# Altium footprint library robot_eseo.PcbLib: 96 footprints (part 6 of 6)
Each footprint in its own frame and in the unit in brackets; x right, y up, seen from the top. Pads: shape width x height; smd on the part's side, far side on the other; paste and mask are expansions set on the pad; w line width, h text height; cw(c..) or ccw(c..) is an arc to the next point about the centre after c.
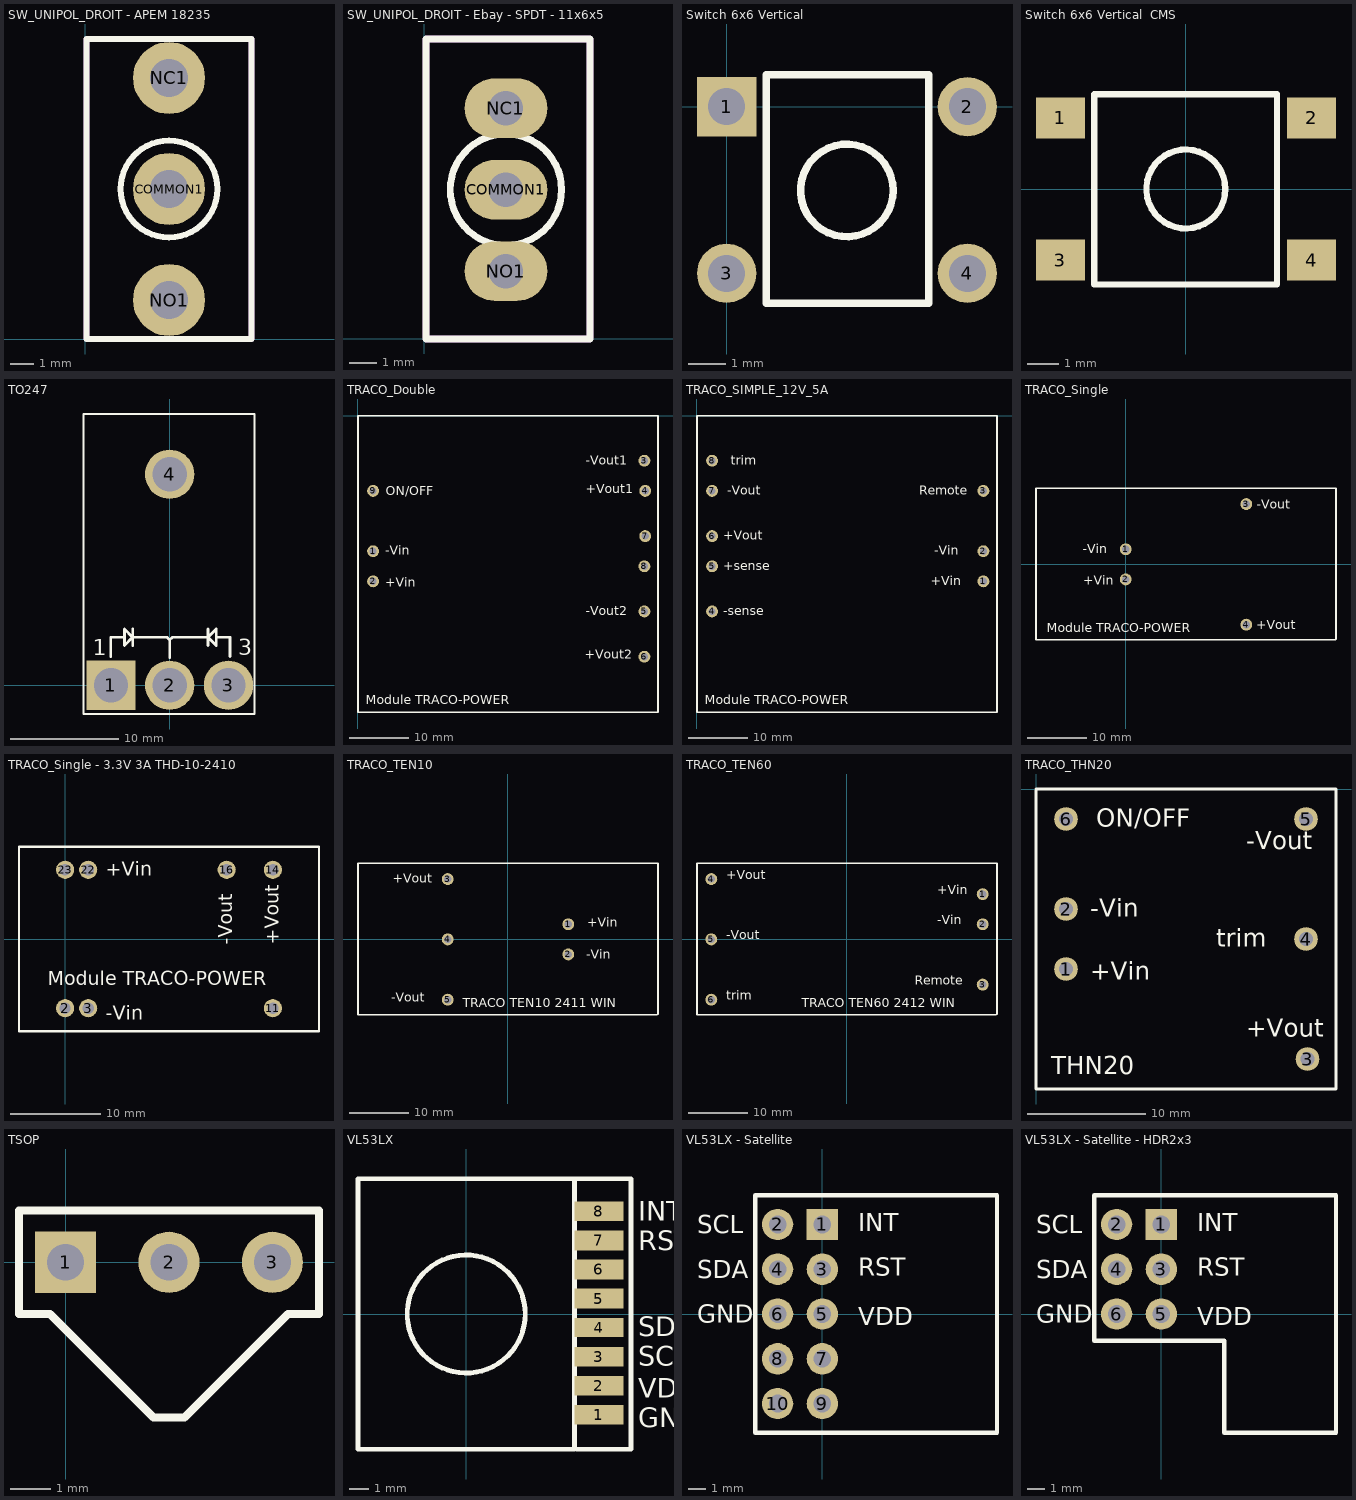
[diagram p5: the footprints below, top view; thin cyan lines are the x and y axes]

## SW_UNIPOL_DROIT - APEM 18235 [mil]
pads (3):
  round 120 hole 63: COMMON1(140,250) NC1(140,435.04) NO1(140,64.96)
Top Overlay:
  circle w10: c140,250 r80.71
  lines w10: 2.2,0 277.8,0 277.8,500 2.2,500 2.2,0
Mechanical 2:
  lines w10: 2.2,0 277.8,0 277.8,500 2.2,500 2.2,0
3D body "SW_UNIPOL_DROIT - APEM 18235.STEP": height 449.12, standoff -167.32, extent -10,3.94 285.28,496.06

## SW_UNIPOL_DROIT - Ebay - SPDT - 11x6x5 [mm] "SW_UNIPOL_DROIT - Ebay - SPDT - 11x6x5"
pads (3):
  oval 3.048x2.2 hole 1.27: COMMON1(3,5.5) NC1(3,8.5) NO1(3,2.5)
Top Overlay:
  circle w0.254: c3,5.5 r2.05
  lines w0.254: 0.056,0 0.056,11.049 6.096,11.049 6.096,0 0.056,0
Mechanical 2:
  lines w0.254: 0.056,0 0.056,11.049 6.096,11.049 6.096,0 0.056,0
3D body "switch SPDT - 11x6x5.STEP": height 8, standoff -3.6, extent 0.127,-0.039 6.127,10.961

## Switch 6x6 Vertical [mm]
height 5
pads (4):
  rect 1.6x1.6 hole 1: 1(0,0)
  round 1.6 hole 1: 2(6.5,0) 3(0,-4.5) 4(6.5,-4.5)
Top Overlay:
  circle w0.2: c3.246,-2.261 r1.25
  lines w0.2: 1.067,-5.309 5.461,-5.309 5.461,0.864 1.067,0.864 1.067,-5.309
3D body "Pushbutton-Diptronics DTS-6.step": height 7, standoff -3.5, extent -0.711,-5.335 7.189,0.865

## Switch 6x6 Vertical  CMS [mm] "Switch tactil 6x6 Vertical  CMS"
height 3.6
pads (4):
  rect 1.55x1.3 smd: 1(-3.975,2.25) 2(3.975,2.25) 3(-3.975,-2.25) 4(3.975,-2.25)
Top Overlay:
  circle w0.2: c-0.005,0 r1.25
  lines w0.2: -2.908,-3.023 -2.908,2.997 2.883,2.997 2.883,-3.023 -2.908,-3.023
3D body "Switch tactil 6mm CMS.step": height 5, standoff 0, extent -4.491,-3.011 4.509,2.989

## TO247 [mil] "TO, Thru-Hole, Vertical, Heatsink Mounted; 3 In-Line Leads"
height 901.57
pads (4):
  rect 180x180 hole 125: 1(-214.5,0)
  round 180 hole 125: 2(0,0) 3(214.5,0) 4(0,770)
Top Overlay:
  lines w7.87: -315,-105 -315,990 310,990 310,-105 -315,-105
  lines w10: -215,105 -215,175 -170,175 ; -135,145 -135,205 ; 0,100 0,165 ; 135,175 10,175 0,165 ; 140,145 140,205 ; 175,175 220,175 220,105 ; -135,175 -165,145 -165,205 -135,175 ; -135,175 -10,175 0,165 ; 140,175 170,145 170,205 140,175
  text "3" at 250,110 h59.06
  text "1" at -280,110 h59.06
3D body "TO-247H.STEP": height 196.85, standoff -311.02, extent -305.12,-15 305.12,985

## TRACO_Double [mm] "DoubleTRACO-POWER module"
height 15
pads (9):
  round 2 hole 1.219: 1(2.54,-22.86) 2(2.54,-27.94) 3(48.26,-7.62) 4(48.387,-12.7) 5(48.26,-33.02) 6(48.26,-40.64) 7(48.387,-20.32) 8(48.26,-25.4) 9(2.54,-12.7)
Top Overlay:
  lines w0.254: 0,-0.127 0,-50.038 50.546,-50.038 50.546,0 0,0
  text "+Vout1" at 38.354,-13.081 h1.52
  text "-Vout1" at 38.354,-8.255 h1.52
  text "+Vin" at 4.572,-28.829 h1.52
  text "-Vin" at 4.572,-23.495 h1.52
  text "Module TRACO-POWER" at 1.27,-48.641 h1.52
  text "ON/OFF" at 4.699,-13.462 h1.52
  text "-Vout2" at 38.354,-33.655 h1.52
  text "+Vout2" at 38.227,-41.021 h1.52
3D body: height 10, standoff 0, extent -0.127,-50.038 50.673,0.127

## TRACO_SIMPLE_12V_5A [mm] "DoubleTRACO-POWER module"
height 15
pads (8):
  round 2 hole 1.219: 1(48.26,-27.94) 2(48.26,-22.86) 3(48.26,-12.7) 4(2.54,-33.02) 5(2.54,-25.4) 6(2.54,-20.32) 7(2.54,-12.7) 8(2.54,-7.62)
Top Overlay:
  lines w0.254: 0,-0.127 0,-50.038 50.546,-50.038 50.546,0 0,0
  text "Remote" at 37.465,-13.335 h1.52
  text "+Vin" at 39.37,-28.575 h1.52
  text "-Vin" at 40.005,-23.495 h1.52
  text "Module TRACO-POWER" at 1.27,-48.641 h1.52
  text "trim" at 5.715,-8.255 h1.52
  text "-sense" at 4.445,-33.655 h1.52
  text "+Vout" at 4.445,-20.955 h1.52
  text "+sense" at 4.445,-26.035 h1.52
  text "-Vout" at 5.08,-13.335 h1.52
3D body: height 10, standoff 0, extent -0.127,-50.038 50.673,0.127

## TRACO_Single [mm] "Single TRACO-POWER module"
height 15
pads (4):
  round 2 hole 1.219: 1(0,2.54) 2(0,-2.54) 3(20.32,10.16) 4(20.32,-10.16)
Top Overlay:
  lines w0.254: -15.113,12.7 -15.113,-12.7 35.306,-12.7 35.433,-12.573 35.433,12.827 -15.113,12.827
  text "+Vout" at 21.971,-10.922 h1.52
  text "-Vout" at 22.098,9.398 h1.52
  text "+Vin" at -7.112,-3.429 h1.52
  text "-Vin" at -7.239,1.905 h1.52
  text "Module TRACO-POWER" at -13.335,-11.43 h1.52
3D body: height 10, standoff 0, extent -15.24,-12.827 35.56,12.954

## TRACO_Single - 3.3V 3A THD-10-2410 [mm] "Single TRACO-POWER module"
height 15
pads (7):
  round 2 hole 1.219: 2(0,-7.62) 3(2.54,-7.62) 11(22.86,-7.62) 14(22.86,7.62) 16(17.78,7.62) 22(2.54,7.62) 23(0,7.62)
Top Overlay:
  lines w0.254: -5.08,-10.16 27.94,-10.16 27.94,10.16 -5.08,10.16 -5.08,-10.16
  text "Module TRACO-POWER" at -1.905,-5.08 h1.52
  text "-Vin" at 4.445,-8.89 h1.52
  text "+Vin" at 4.445,6.985 h1.52
  text "-Vout" at 18.415,-0.635 h1.52
  text "+Vout" at 23.495,-0.635 h1.52
3D body: height 10, standoff 0, extent -15.24,-12.827 35.56,12.954

## TRACO_TEN10 [mm] "Single TRACO-POWER module TEN10"
height 10
pads (5):
  round 2 hole 1.219: 1(10.16,2.54) 2(10.16,-2.54) 3(-10.16,10.16) 4(-10.16,0) 5(-10.16,-10.16)
Top Overlay:
  lines w0.254: -25.273,12.7 -25.273,-12.7 25.146,-12.7 ; -25.273,12.827 25.273,12.827 25.273,-12.573
  text "+Vin" at 13.335,2.159 h1.52
  text "-Vin" at 13.208,-3.302 h1.52
  text "+Vout" at -19.431,9.525 h1.52
  text "-Vout" at -19.685,-10.541 h1.52
  text "TRACO TEN10 2411 WIN" at -7.62,-11.43 h1.52
Bottom Overlay:
  text "-Vin" at 18.669,-3.556 h1.52
  text "+Vin" at 18.288,2.413 h1.52
  text "-Vout" at -13.335,-10.668 h1.52
  text "+Vout" at -12.827,9.398 h1.52
3D body "ten10_3d_drawing.stp": height 10.16, standoff -6.04, extent -25.4,-12.7 25.4,12.7

## TRACO_TEN60 [mm] "Single TRACO-POWER module TEN60"
height 10
pads (6):
  round 2 hole 1.219: 1(22.86,7.62) 2(22.86,2.54) 3(22.86,-7.62) 4(-22.86,10.16) 5(-22.86,0) 6(-22.86,-10.16)
Top Overlay:
  lines w0.254: -25.273,12.7 -25.273,-12.7 25.146,-12.7 ; -25.273,12.827 25.273,12.827 25.273,-12.573
  text "+Vin" at 15.24,7.62 h1.52
  text "-Vin" at 15.24,2.54 h1.52
  text "Remote" at 11.43,-7.62 h1.52
  text "+Vout" at -20.32,10.16 h1.52
  text "-Vout" at -20.32,0 h1.52
  text "trim" at -20.32,-10.16 h1.52
  text "TRACO TEN60 2412 WIN" at -7.62,-11.43 h1.52
Bottom Overlay:
  text "Remote" at 20.32,-7.62 h1.52
  text "-Vin" at 20.32,2.54 h1.52
  text "+Vin" at 20.32,7.62 h1.52
  text "trim" at -13.97,-10.16 h1.52
  text "-Vout" at -13.97,0 h1.52
  text "+Vout" at -13.97,10.16 h1.52
3D body "TracoTEN602412WIN.STEP": height 10.2, standoff -5.6, extent -25.4,-12.7 25.4,12.7

## TRACO_THN20 [mm] "THN20"
height 15
pads (6):
  round 2 hole 1.219: 1(2.54,-15.24) 2(2.54,-10.16) 3(22.987,-22.86) 4(22.86,-12.7) 5(22.86,-2.54) 6(2.54,-2.54)
Top Overlay:
  lines w0.254: 0,-0.127 0,-25.4 25.4,-25.4 25.4,0 0,0
  text "trim" at 15.24,-13.335 h1.52
  text "ON/OFF" at 5.08,-3.175 h1.52
  text "THN20" at 1.27,-24.13 h1.52
  text "-Vin" at 4.572,-10.795 h1.52
  text "+Vin" at 4.572,-16.129 h1.52
  text "-Vout" at 17.78,-5.08 h1.52
  text "+Vout" at 17.78,-20.955 h1.52
3D body: height 9.91, standoff 0, extent -0.06,-25.429 25.413,0

## TSOP [mm]
pads (3):
  rect 1.5x1.5 hole 0.9: 1(0,0)
  round 1.5 hole 0.9: 2(2.54,0) 3(5.08,0)
Top Overlay:
  lines w0.2: -1.143,-1.27 -1.143,1.27 6.223,1.27 6.223,-1.27 5.461,-1.27 2.921,-3.81 2.159,-3.81 -0.381,-1.27 -1.143,-1.27
3D body "TSOP.STEP": height 8.47, standoff -1.26, extent -0.46,-3.937 5.54,1.279

## VL53LX [mil]
pads (8):
  rect 100x40 smd: 1(270,-204.72) 2(270,-145.67) 3(270,-86.61) 5(270,31.5) 6(270,90.55) 7(270,149.61) 8(270,208.66)
  rect 100x39.37 smd: 4(270,-27.56)
Top Overlay:
  circle w10: c0,0 r120
  lines w10: 225,-275 335,-275 335,275 220,275 ; 220,275 -220,275 -220,-275 220,-275 220,275
  text "GND" at 350,-230 h40
  text "VDD" at 350,-170 h40
  text "SCL" at 350,-105 h40
  text "SDA" at 350,-45 h40
  text "RST" at 350,130 h40
  text "INT" at 350,190 h40
3D body "VL53L0A1.STEP": height 37.36, standoff -68.94, extent -216.53,-275.58 216.54,275.6

## VL53LX - Satellite [mil]
pads (10):
  rect 70x70 hole 39.37: 1(0,200)
  round 70 hole 39.37: 2(-100,200) 3(0,100) 4(-100,100) 5(0,0) 6(-100,0) 7(0,-100) 8(-100,-100) 9(0,-200) 10(-100,-200)
Top Overlay:
  lines w10: -150,-265 -150,265 390,265 390,-265 -150,-265
  text "GND" at -280,-20 h40
  text "VDD" at 80,-25 h40
  text "SCL" at -280,180 h40
  text "SDA" at -280,80 h40
  text "RST" at 80,85 h40
  text "INT" at 80,185 h40
3D body "WURTH_Socket_Female_2x5_613010243121 (rev1).stp": height 198.43, standoff -128.35, extent -108.74,-259.84 387.32,259.85
3D body "ST_VL53L0A1_Satellite.STEP": height 1035.43, standoff -7.87, extent 158.78,-275.59 613.11,275.59

## VL53LX - Satellite - HDR2x3 [mil]
pads (6):
  rect 70x70 hole 39.37: 1(0,200)
  round 70 hole 39.37: 2(-100,200) 3(0,100) 4(-100,100) 5(0,0) 6(-100,0)
Top Overlay:
  lines w10: -150,-60 140,-60 140,-265 310,-265 390,-265 390,265 -150,265 -150,-60
  text "GND" at -280,-20 h40
  text "VDD" at 80,-25 h40
  text "SCL" at -280,180 h40
  text "SDA" at -280,80 h40
  text "RST" at 80,85 h40
  text "INT" at 80,185 h40
3D body "WURTH_Socket_Female_2x3_613006243121 (rev1).stp": height 198.43, standoff -128.35, extent -108.74,-59.84 387.32,259.85
3D body "ST_VL53L0A1_Satellite.STEP": height 1035.43, standoff -7.87, extent 158.78,-275.59 613.11,275.59